# Altium integrated library PIC16F18346-I_SS.IntLib: 1 symbol
Pins are listed as number, name and electrical type; pins without a type are passive.

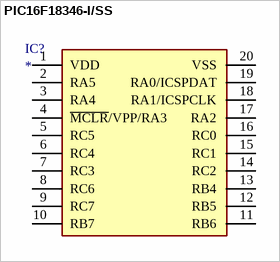
[diagram p0: symbol PIC16F18346-I/SS]

## PIC16F18346-I/SS
designator IC?
Datasheet: http://ww1.microchip.com/downloads/en/DeviceDoc/PIC16-L-F18326-18346-Data-Sheet-40001839D.pdf; Package: SSOP 20 pines
footprint PIC16F18346-I/SS
pins: 1 VDD, 2 RA5, 3 RA4, 4 ~{MCLR}/VPP/RA3, 5 RC5, 6 RC4, 7 RC3, 8 RC6, 9 RC7, 10 RB7, 11 RB6, 12 RB5, 13 RB4, 14 RC2, 15 RC1, 16 RC0, 17 RA2, 18 RA1/ICSPCLK, 19 RA0/ICSPDAT, 20 VSS